# Altium schematic symbol library CC322522A-220K.SchLib: 1 symbol
Pins are listed as number, name and electrical type; pins without a type are passive.

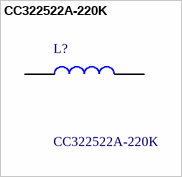
[diagram p0: symbol CC322522A-220K]

## CC322522A-220K
designator L?
22 H Unshielded Inductor 370 mA 2Ohm Max 1210 (3225 Metric); Manufacturer_Name: Bourns; Geometry.Height: 2.4mm; Manufacturer_Part_Number: CC322522A-220K; Mouser Part Number: 652-CC322522A-220K; Mouser Price/Stock: https://www.mouser.co.uk/ProductDetail/Bourns/CC322522A-220K?qs=BJlw7L4Cy79%252BfkwUStgyAQ%3D%3D; Arrow Part Number: CC322522A-220K; Arrow Price/Stock: https://www.arrow.com/en/products/cc322522a-220k/bourns?region=nac; Datasheet Link: https://www.bourns.com/docs/product-datasheets/cc322522a.pdf
footprint INDM3225X240N
pins: 1, 2